# Altium schematic symbol library TQMP2020.SchLib: 1 symbol
Pins are listed as number, name and electrical type; pins without a type are passive.

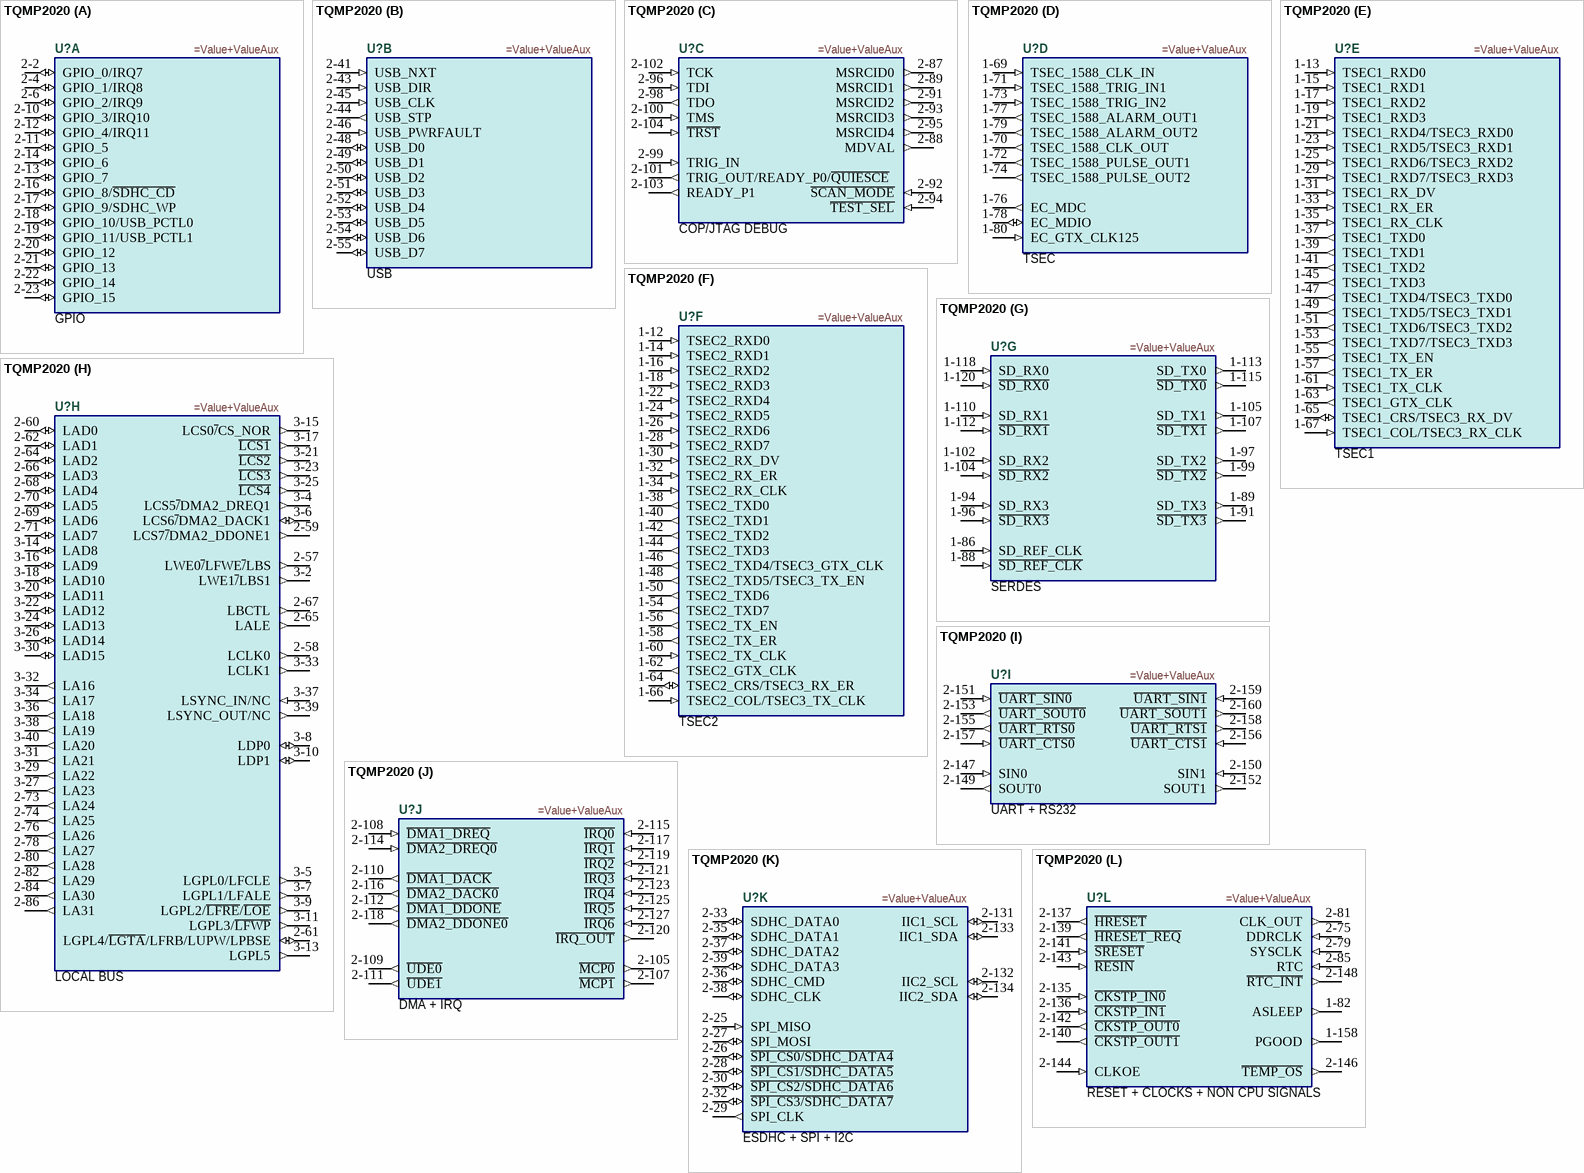
[diagram p0: symbol TQMP2020]

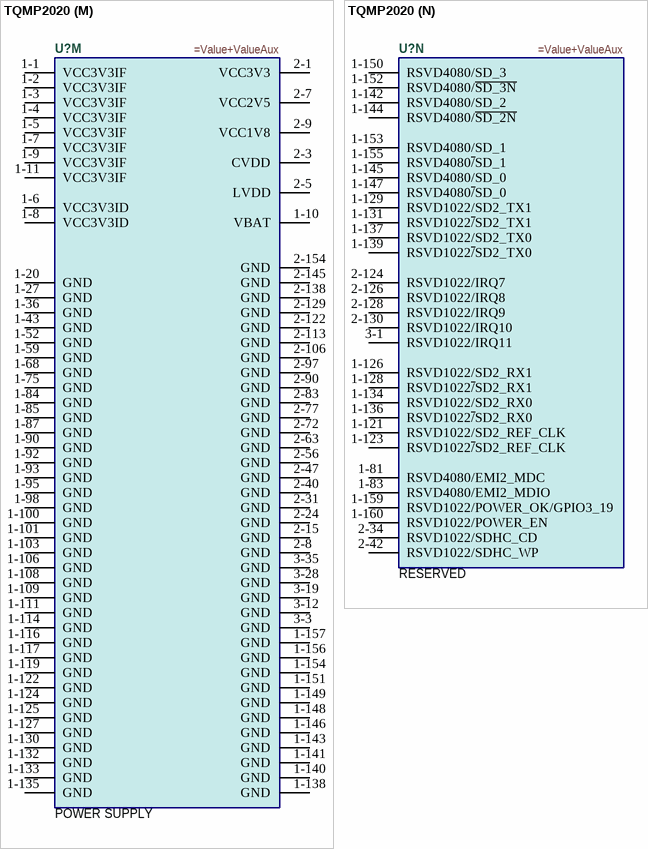
[diagram p1: symbol TQMP2020]

## TQMP2020
designator U?
=Description
part A pins: 2-2 GPIO_0/IRQ7 (io), 2-4 GPIO_1/IRQ8 (io), 2-6 GPIO_2/IRQ9 (io), 2-10 GPIO_3/IRQ10 (io), 2-11 GPIO_5 (io), 2-12 GPIO_4/IRQ11 (io), 2-13 GPIO_7 (io), 2-14 GPIO_6 (io), 2-16 GPIO_8/~{SDHC_CD} (io), 2-17 GPIO_9/SDHC_WP (io), 2-18 GPIO_10/USB_PCTL0 (io), 2-19 GPIO_11/USB_PCTL1 (io), 2-20 GPIO_12 (io), 2-21 GPIO_13 (io), 2-22 GPIO_14 (io), 2-23 GPIO_15 (io)
part B pins: 2-41 USB_NXT (in), 2-43 USB_DIR (in), 2-44 USB_STP (out), 2-45 USB_CLK (in), 2-46 USB_PWRFAULT (in), 2-48 USB_D0 (io), 2-49 USB_D1 (io), 2-50 USB_D2 (io), 2-51 USB_D3 (io), 2-52 USB_D4 (io), 2-53 USB_D5 (io), 2-54 USB_D6 (io), 2-55 USB_D7 (io)
part C pins: 2-87 MSRCID0 (out), 2-88 MDVAL (out), 2-89 MSRCID1 (out), 2-91 MSRCID2 (out), 2-92 ~{SCAN_MODE} (in), 2-93 MSRCID3 (out), 2-94 ~{TEST_SEL} (in), 2-95 MSRCID4 (out), 2-96 TDI (in), 2-98 TDO (out), 2-99 TRIG_IN (in), 2-100 TMS (in), 2-101 TRIG_OUT/READY_P0/~{QUIESCE} (out), 2-102 TCK (in), 2-103 READY_P1 (out), 2-104 ~{TRST} (in)
part D pins: 1-69 TSEC_1588_CLK_IN (in), 1-70 TSEC_1588_CLK_OUT (out), 1-71 TSEC_1588_TRIG_IN1 (in), 1-72 TSEC_1588_PULSE_OUT1 (out), 1-73 TSEC_1588_TRIG_IN2 (in), 1-74 TSEC_1588_PULSE_OUT2 (out), 1-76 EC_MDC (out), 1-77 TSEC_1588_ALARM_OUT1 (out), 1-78 EC_MDIO (io), 1-79 TSEC_1588_ALARM_OUT2 (out), 1-80 EC_GTX_CLK125 (in)
part E pins: 1-13 TSEC1_RXD0 (in), 1-15 TSEC1_RXD1 (in), 1-17 TSEC1_RXD2 (in), 1-19 TSEC1_RXD3 (in), 1-21 TSEC1_RXD4/TSEC3_RXD0 (in), 1-23 TSEC1_RXD5/TSEC3_RXD1 (in), 1-25 TSEC1_RXD6/TSEC3_RXD2 (in), 1-29 TSEC1_RXD7/TSEC3_RXD3 (in), 1-31 TSEC1_RX_DV (in), 1-33 TSEC1_RX_ER (in), 1-35 TSEC1_RX_CLK (in), 1-37 TSEC1_TXD0 (out), 1-39 TSEC1_TXD1 (out), 1-41 TSEC1_TXD2 (out), 1-45 TSEC1_TXD3 (out), 1-47 TSEC1_TXD4/TSEC3_TXD0 (out), 1-49 TSEC1_TXD5/TSEC3_TXD1 (out), 1-51 TSEC1_TXD6/TSEC3_TXD2 (out), 1-53 TSEC1_TXD7/TSEC3_TXD3 (out), 1-55 TSEC1_TX_EN (out), 1-57 TSEC1_TX_ER (out), 1-61 TSEC1_TX_CLK (in), 1-63 TSEC1_GTX_CLK (out), 1-65 TSEC1_CRS/TSEC3_RX_DV (io), 1-67 TSEC1_COL/TSEC3_RX_CLK (in)
part F pins: 1-12 TSEC2_RXD0 (in), 1-14 TSEC2_RXD1 (in), 1-16 TSEC2_RXD2 (in), 1-18 TSEC2_RXD3 (in), 1-22 TSEC2_RXD4 (in), 1-24 TSEC2_RXD5 (in), 1-26 TSEC2_RXD6 (in), 1-28 TSEC2_RXD7 (in), 1-30 TSEC2_RX_DV (in), 1-32 TSEC2_RX_ER (in), 1-34 TSEC2_RX_CLK (in), 1-38 TSEC2_TXD0 (out), 1-40 TSEC2_TXD1 (out), 1-42 TSEC2_TXD2 (out), 1-44 TSEC2_TXD3 (out), 1-46 TSEC2_TXD4/TSEC3_GTX_CLK (out), 1-48 TSEC2_TXD5/TSEC3_TX_EN (out), 1-50 TSEC2_TXD6 (out), 1-54 TSEC2_TXD7 (out), 1-56 TSEC2_TX_EN (out), 1-58 TSEC2_TX_ER (out), 1-60 TSEC2_TX_CLK (in), 1-62 TSEC2_GTX_CLK (out), 1-64 TSEC2_CRS/TSEC3_RX_ER (io), 1-66 TSEC2_COL/TSEC3_TX_CLK (in)
part G pins: 1-86 SD_REF_CLK (in), 1-88 ~{SD_REF_CLK} (in), 1-89 SD_TX3 (out), 1-91 ~{SD_TX3} (out), 1-94 SD_RX3 (in), 1-96 ~{SD_RX3} (in), 1-97 SD_TX2 (out), 1-99 ~{SD_TX2} (out), 1-102 SD_RX2 (in), 1-104 ~{SD_RX2} (in), 1-105 SD_TX1 (out), 1-107 ~{SD_TX1} (out), 1-110 SD_RX1 (in), 1-112 ~{SD_RX1} (in), 1-113 SD_TX0 (out), 1-115 ~{SD_TX0} (out), 1-118 SD_RX0 (in), 1-120 ~{SD_RX0} (in)
part H pins: 2-57 LWE0~{/}LFWE~{/}LBS (out), 2-58 LCLK0 (out), 2-59 LCS7~{/}DMA2_DDONE1 (out), 2-60 LAD0 (io), 2-61 LGPL4/~{LGTA}/LFRB/LUPW/LPBSE (io), 2-62 LAD1 (io), 2-64 LAD2 (io), 2-65 LALE (out), 2-66 LAD3 (io), 2-67 LBCTL (out), 2-68 LAD4 (io), 2-69 LAD6 (io), 2-70 LAD5 (io), 2-71 LAD7 (io), 2-73 LA24 (out), 2-74 LA25 (out), 2-76 LA26 (out), 2-78 LA27 (out), 2-80 LA28 (out), 2-82 LA29 (out), 2-84 LA30 (out), 2-86 LA31 (out), 3-2 LWE1~{/}LBS1 (out), 3-4 LCS5~{/}DMA2_DREQ1 (out), 3-5 LGPL0/LFCLE (out), 3-6 LCS6~{/}DMA2_DACK1 (io), 3-7 LGPL1/LFALE (out), 3-8 LDP0 (io), 3-9 LGPL2/~{LFRE}/~{LOE} (out), 3-10 LDP1 (io), 3-11 LGPL3/~{LFWP} (out), 3-13 LGPL5 (out), 3-14 LAD8 (io), 3-15 LCS0~{/}CS_NOR (out), 3-16 LAD9 (io), 3-17 ~{LCS1} (out), 3-18 LAD10 (io), 3-20 LAD11 (io), 3-21 ~{LCS2} (out), 3-22 LAD12 (io), 3-23 ~{LCS3} (out), 3-24 LAD13 (io), 3-25 ~{LCS4} (out), 3-26 LAD14 (io), 3-27 LA23 (out), 3-29 LA22 (out), 3-30 LAD15 (io), 3-31 LA21 (out), 3-32 LA16 (out), 3-33 LCLK1 (out), 3-34 LA17 (out), 3-36 LA18 (out), 3-37 LSYNC_IN/NC (in), 3-38 LA19 (out), 3-39 LSYNC_OUT/NC (out), 3-40 LA20 (out)
part I pins: 2-147 SIN0 (in), 2-149 SOUT0 (out), 2-150 SIN1 (in), 2-151 ~{UART_SIN0} (in), 2-152 SOUT1 (out), 2-153 ~{UART_SOUT0} (out), 2-155 ~{UART_RTS0} (out), 2-156 ~{UART_CTS1} (in), 2-157 ~{UART_CTS0} (in), 2-158 ~{UART_RTS1} (out), 2-159 ~{UART_SIN1} (in), 2-160 ~{UART_SOUT1} (out)
part J pins: 2-105 ~{MCP0} (out), 2-107 ~{MCP1} (out), 2-108 ~{DMA1_DREQ} (in), 2-109 ~{UDE0} (out), 2-110 ~{DMA1_DACK} (out), 2-111 ~{UDE1} (out), 2-112 ~{DMA1_DDONE} (out), 2-114 ~{DMA2_DREQ0} (in), 2-115 ~{IRQ0} (in), 2-116 ~{DMA2_DACK0} (out), 2-117 ~{IRQ1} (in), 2-118 ~{DMA2_DDONE0} (out), 2-119 ~{IRQ2} (in), 2-120 ~{IRQ_OUT} (out), 2-121 ~{IRQ3} (in), 2-123 ~{IRQ4} (in), 2-125 ~{IRQ5} (in), 2-127 ~{IRQ6} (in)
part K pins: 2-25 SPI_MISO (in), 2-26 ~{SPI_CS0/SDHC_DATA4} (io), 2-27 SPI_MOSI (io), 2-28 ~{SPI_CS1/SDHC_DATA5} (io), 2-29 SPI_CLK (out), 2-30 ~{SPI_CS2/SDHC_DATA6} (io), 2-32 ~{SPI_CS3/SDHC_DATA7} (io), 2-33 SDHC_DATA0 (io), 2-35 SDHC_DATA1 (io), 2-36 SDHC_CMD (io), 2-37 SDHC_DATA2 (io), 2-38 SDHC_CLK (io), 2-39 SDHC_DATA3 (io), 2-131 IIC1_SCL (io), 2-132 IIC2_SCL (io), 2-133 IIC1_SDA (io), 2-134 IIC2_SDA (io)
part L pins: 1-82 ASLEEP (out), 1-158 PGOOD (out), 2-75 DDRCLK (in), 2-79 SYSCLK (in), 2-81 CLK_OUT (out), 2-85 RTC (in), 2-135 ~{CKSTP_IN0} (in), 2-136 ~{CKSTP_IN1} (in), 2-137 ~{HRESET} (out), 2-139 ~{HRESET_REQ} (out), 2-140 ~{CKSTP_OUT1} (out), 2-141 ~{SRESET} (in), 2-142 ~{CKSTP_OUT0} (out), 2-143 ~{RESIN} (in), 2-144 CLKOE (in), 2-146 ~{TEMP_OS} (out), 2-148 ~{RTC_INT} (out)
part M pins: 1-1 VCC3V3IF (power), 1-2 VCC3V3IF (power), 1-3 VCC3V3IF (power), 1-4 VCC3V3IF (power), 1-5 VCC3V3IF (power), 1-6 VCC3V3ID (power), 1-7 VCC3V3IF (power), 1-8 VCC3V3ID (power), 1-9 VCC3V3IF (power), 1-10 VBAT (power), 1-11 VCC3V3IF (power), 1-20 GND (power), 1-27 GND (power), 1-36 GND (power), 1-43 GND (power), 1-52 GND (power), 1-59 GND (power), 1-68 GND (power), 1-75 GND (power), 1-84 GND (power), 1-85 GND (power), 1-87 GND (power), 1-90 GND (power), 1-92 GND (power), 1-93 GND (power), 1-95 GND (power), 1-98 GND (power), 1-100 GND (power), 1-101 GND (power), 1-103 GND (power), 1-106 GND (power), 1-108 GND (power), 1-109 GND (power), 1-111 GND (power), 1-114 GND (power), 1-116 GND (power), 1-117 GND (power), 1-119 GND (power), 1-122 GND (power), 1-124 GND (power), 1-125 GND (power), 1-127 GND (power), 1-130 GND (power), 1-132 GND (power), 1-133 GND (power), 1-135 GND (power), 1-138 GND (power), 1-140 GND (power), 1-141 GND (power), 1-143 GND (power), 1-146 GND (power), 1-148 GND (power), 1-149 GND (power), 1-151 GND (power), 1-154 GND (power), 1-156 GND (power), 1-157 GND (power), 2-1 VCC3V3 (power), 2-3 CVDD (power), 2-5 LVDD (power), 2-7 VCC2V5 (power), 2-8 GND (power), 2-9 VCC1V8 (power), 2-15 GND (power), 2-24 GND (power), 2-31 GND (power), 2-40 GND (power), 2-47 GND (power), 2-56 GND (power), 2-63 GND (power), 2-72 GND (power), 2-77 GND (power), 2-83 GND (power), 2-90 GND (power), 2-97 GND (power), 2-106 GND (power), 2-113 GND (power), 2-122 GND (power), 2-129 GND (power), 2-138 GND (power), 2-145 GND (power), 2-154 GND (power), 3-3 GND (power), 3-12 GND (power), 3-19 GND (power), 3-28 GND (power), 3-35 GND (power)
part N pins: 1-81 RSVD4080/EMI2_MDC, 1-83 RSVD4080/EMI2_MDIO, 1-121 RSVD1022/SD2_REF_CLK, 1-123 RSVD1022~{/}SD2_REF_CLK, 1-126 RSVD1022/SD2_RX1, 1-128 RSVD1022~{/}SD2_RX1, 1-129 RSVD1022/SD2_TX1, 1-131 RSVD1022~{/}SD2_TX1, 1-134 RSVD1022/SD2_RX0, 1-136 RSVD1022~{/}SD2_RX0, 1-137 RSVD1022/SD2_TX0, 1-139 RSVD1022~{/}SD2_TX0, 1-142 RSVD4080/SD_2, 1-144 RSVD4080/~{SD_2N}, 1-145 RSVD4080/SD_0, 1-147 RSVD4080~{/}SD_0, 1-150 RSVD4080/SD_3, 1-152 RSVD4080/~{SD_3N}, 1-153 RSVD4080/SD_1, 1-155 RSVD4080~{/}SD_1, 1-159 RSVD1022/POWER_OK/GPIO3_19, 1-160 RSVD1022/POWER_EN, 2-34 RSVD1022/SDHC_CD, 2-42 RSVD1022/SDHC_WP, 2-124 RSVD1022/IRQ7, 2-126 RSVD1022/IRQ8, 2-128 RSVD1022/IRQ9, 2-130 RSVD1022/IRQ10, 3-1 RSVD1022/IRQ11
part A text: GPIO
part B text: USB
part C text: COP/JTAG DEBUG
part D text: TSEC
part E text: TSEC1
part F text: TSEC2
part G text: SERDES
part H text: LOCAL BUS
part I text: UART + RS232
part J text: DMA + IRQ
part K text: ESDHC + SPI + I2C
part L text: RESET + CLOCKS + NON CPU SIGNALS
part M text: POWER SUPPLY
part N text: RESERVED